# Altium integrated library Linear Technology PMIC-Switching Reg LTC1174-LTC3901.IntLib: 2647 symbols (part 99 of 310)
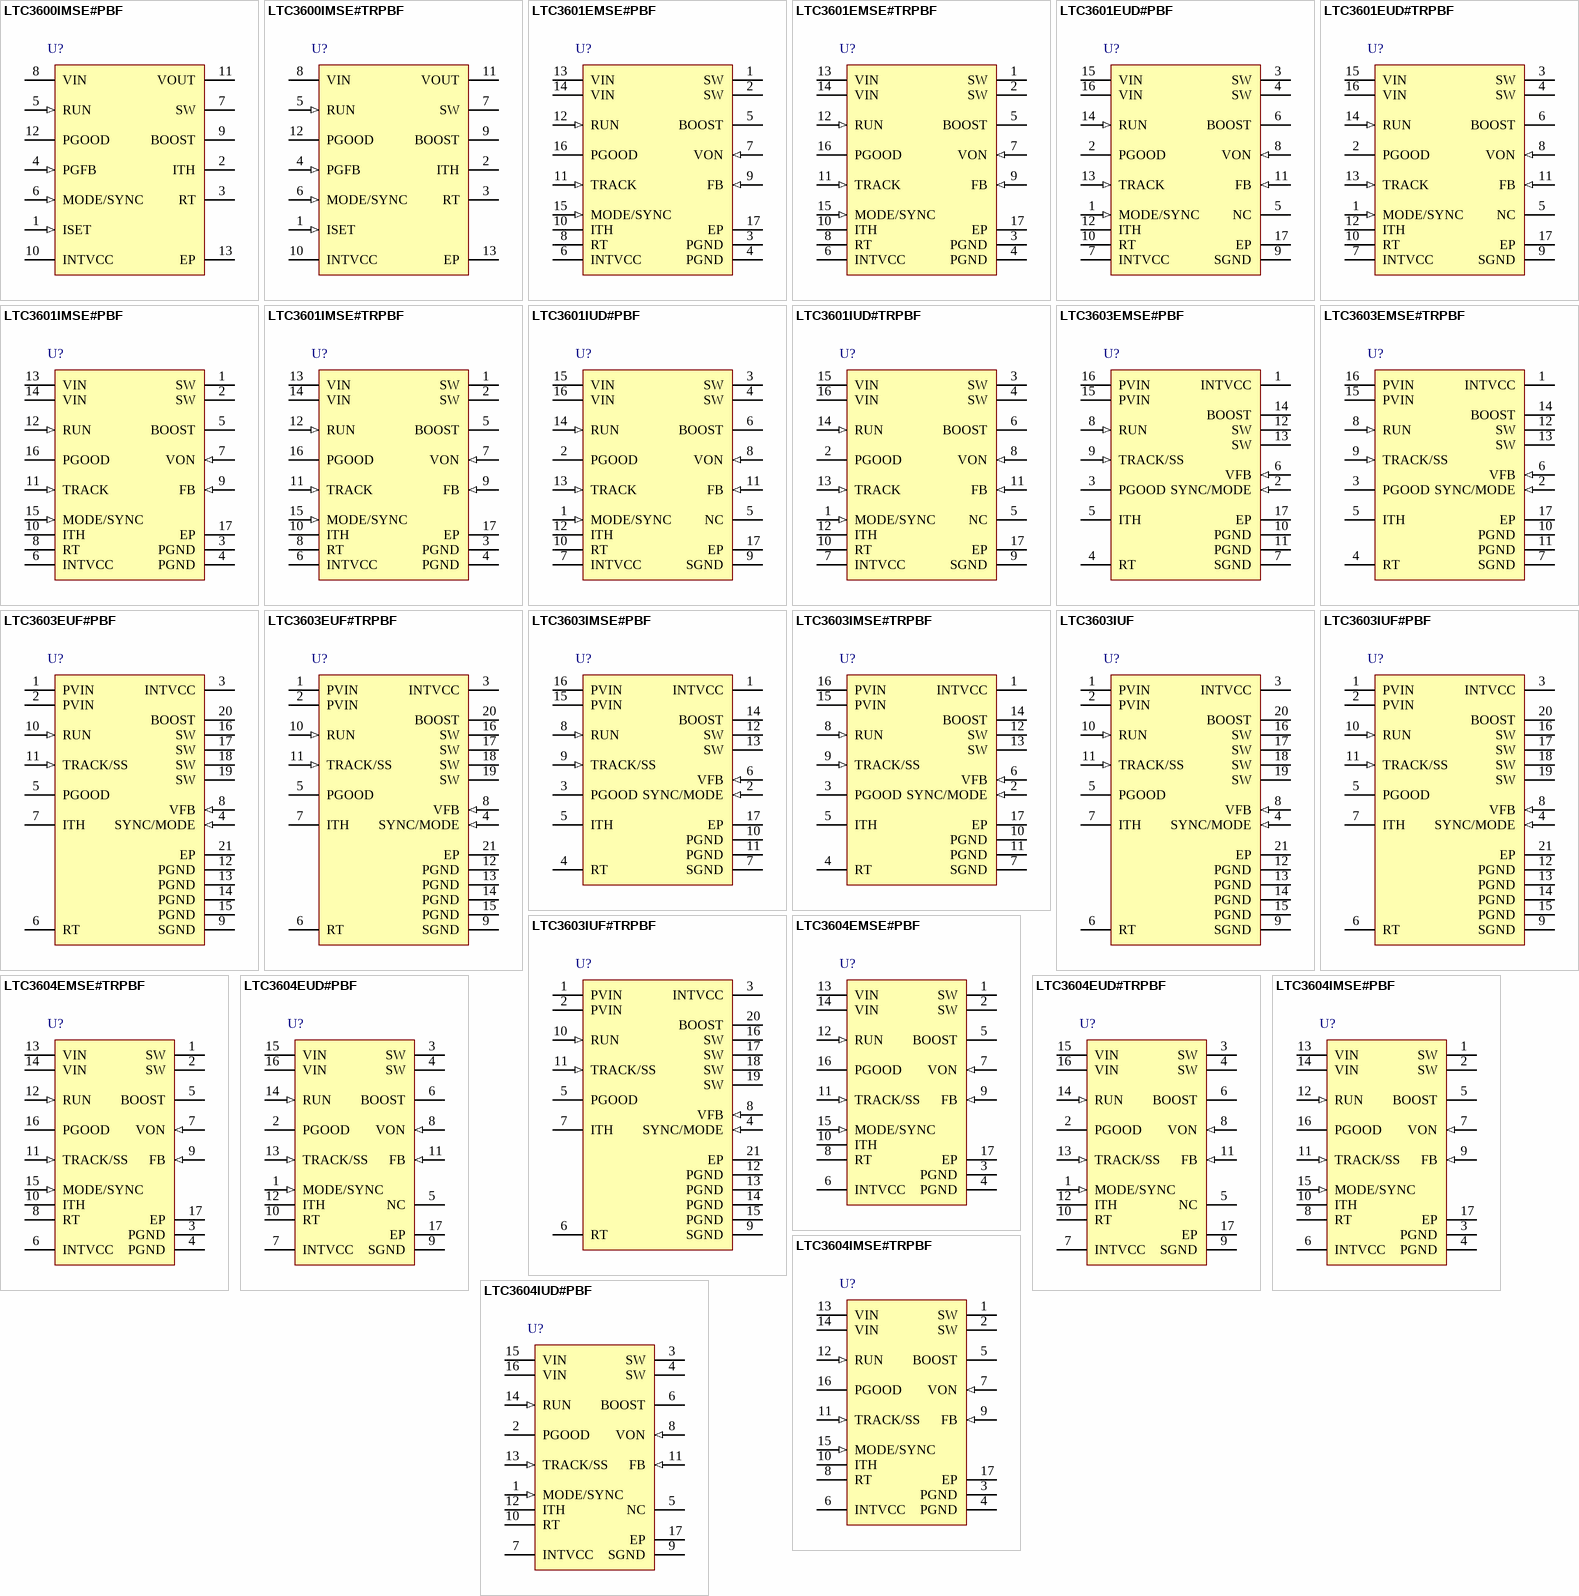
[diagram p172: symbols LTC3600IMSE#PBF to LTC3604IUD#PBF]

## LTC3601EUD#PBF
designator U?
1.5 A, Monolithic Synchronous Step-Down Regulator, 16-pin QFN (UD-16), -40 to 125 degC, Pb-Free; Manufacturer: Linear Technology; PartNumber: LTC3601EUD#PBF; Number of Outputs: 1; PackageReference: UD-16; PackageDescription: 16-Pin Plastic QFN, Body 3 x 3 mm, Pitch 0.5 mm; Supplier 1: Digi-Key; Supplier Part Number 1: LTC3601EUD#PBF-ND; RoHS: TRUE; Code_JEDEC: MO-220
footprint LT-UD-16_N (QFN, 16-Leads, Body 3x3mm, Pitch 0.5mm, Thermal Pad 1.45x1.45mm, IPC Medium Density)
footprint LT-UD-16_L (QFN, 16-Leads, Body 3x3mm, Pitch 0.5mm, Thermal Pad 1.45x1.45mm, IPC High Density)
footprint LT-UD-16_M (QFN, 16-Leads, Body 3x3mm, Pitch 0.5mm, Thermal Pad 1.45x1.45mm, IPC Low Density)
pins: 1 MODE/SYNC (in) "Mode Selection and External Synchronization Input Pin. This pin places the LTC3601 into forced continuous operation when tied to ground. High efficiency Burst Mode operation is enabled by either floating this pin or by tying (See Datasheet)", 2 PGOOD (hiz) "Open-Drain Power Good Output Pin. PGOOD is pulled to ground when the voltage at the FB pin is not within 8% (typical) of the internal 0.6V reference. PGOOD becomes high impedance once the voltage at the FB pin returns to (See Datasheet)", 3 SW (power) "Switch Node Output Pin. Connect this pin to the SW side of the external inductor. The normal operation voltage swing of this pin ranges from ground to PVIN.", 4 SW (power) "Switch Node Output Pin. Connect this pin to the SW side of the external inductor. The normal operation voltage swing of this pin ranges from ground to PVIN.", 5 NC, 6 BOOST "Boosted Floating Driver Supply Pin. The (+) terminal of the external bootstrap capacitor connects to this pin while the (-) terminal connects to the SW pin. The normal operation voltage swing of this pin ranges from a diode (See Datasheet)", 7 INTVCC (power) "Internal 3.3V Regulator Output Pin. This pin should be decoupled to PGND with a low ESR ceramic capacitor of 1uF or more.", 8 VON (in) "On-Time Voltage Input Pin. This pin sets the voltage trip point for the on-time comparator. Connect this pin to the regulated output to make the ontime proportional to the output voltage when VOUT =< 6V. If VOUT > 6V, (See Datasheet)", 9 SGND (power) "Signal Ground Pin. This pin should have a low noise connection to reference ground. The feedback resistor network, external compensation network and RT resistor should be connected to this ground. In the MSE package, the (See Datasheet)", 10 RT "Oscillator Frequency Program Pin. Connect an external resistor, between 80k to 400k, from this pin to SGND to program the LTC3601 switching frequency from 800kHz to 4MHz. When RT is tied to INTVCC, the switching frequency (See Datasheet)", 11 FB (in) "Output Voltage Feedback Pin. Input to the error amplifier that compares the feedback voltage to the internal 0.6V reference voltage. Connect this pin to the appropriate resistor divider network to program the desired output (See Datasheet)", 12 ITH "Error Amplifier Output and Switching Regulator Compensation Pin. Connect this pin to appropriate external components to compensate the regulator loop frequency response. Connect this pin to INTVCC to use the default internal (See Datasheet)", 13 TRACK (in) "Output Voltage Tracking and Soft-Start Input Pin. Forcing a voltage below 0.6V on this pin overrides the internal reference input to the error amplifier. The LTC3601 will servo the FB pin to the TRACK voltage under this (See Datasheet)", 14 RUN (in) "Regulator Enable Pin. Enables chip operation by applying a voltage above 1.25V. A voltage below 1V on this pin places the part into shutdown. Do not float this pin.", 15 VIN (power) "Main Power Supply Input Pins. These pins should be closely decoupled to PGND with a low ESR capacitor of 10uF or more.", 16 VIN (power) "Main Power Supply Input Pins. These pins should be closely decoupled to PGND with a low ESR capacitor of 10uF or more.", 17 EP (power) "Power Ground Pin. The (-) terminal of the input bypass capacitor, CIN, and the (-) terminal of the output capacitor, COUT , should be tied to this pin with a low impedance connection. In the QFN package the exposed pad must (See Datasheet)"

## LTC3601EUD#TRPBF
designator U?
1.5 A, Monolithic Synchronous Step-Down Regulator, 16-pin QFN (UD-16), -40 to 125 degC, Pb-Free, Tape and Reel; Manufacturer: Linear Technology; PartNumber: LTC3601EUD#TRPBF; Number of Outputs: 1; PackageReference: UD-16; PackageDescription: 16-Pin Plastic QFN, Body 3 x 3 mm, Pitch 0.5 mm; Supplier 1: Digi-Key; Supplier Part Number 1: LTC3601EUD#TRPBF-ND; RoHS: TRUE; Code_JEDEC: MO-220
footprint LT-UD-16_N (QFN, 16-Leads, Body 3x3mm, Pitch 0.5mm, Thermal Pad 1.45x1.45mm, IPC Medium Density)
footprint LT-UD-16_L (QFN, 16-Leads, Body 3x3mm, Pitch 0.5mm, Thermal Pad 1.45x1.45mm, IPC High Density)
footprint LT-UD-16_M (QFN, 16-Leads, Body 3x3mm, Pitch 0.5mm, Thermal Pad 1.45x1.45mm, IPC Low Density)
pins: 1 MODE/SYNC (in) "Mode Selection and External Synchronization Input Pin. This pin places the LTC3601 into forced continuous operation when tied to ground. High efficiency Burst Mode operation is enabled by either floating this pin or by tying (See Datasheet)", 2 PGOOD (hiz) "Open-Drain Power Good Output Pin. PGOOD is pulled to ground when the voltage at the FB pin is not within 8% (typical) of the internal 0.6V reference. PGOOD becomes high impedance once the voltage at the FB pin returns to (See Datasheet)", 3 SW (power) "Switch Node Output Pin. Connect this pin to the SW side of the external inductor. The normal operation voltage swing of this pin ranges from ground to PVIN.", 4 SW (power) "Switch Node Output Pin. Connect this pin to the SW side of the external inductor. The normal operation voltage swing of this pin ranges from ground to PVIN.", 5 NC, 6 BOOST "Boosted Floating Driver Supply Pin. The (+) terminal of the external bootstrap capacitor connects to this pin while the (-) terminal connects to the SW pin. The normal operation voltage swing of this pin ranges from a diode (See Datasheet)", 7 INTVCC (power) "Internal 3.3V Regulator Output Pin. This pin should be decoupled to PGND with a low ESR ceramic capacitor of 1uF or more.", 8 VON (in) "On-Time Voltage Input Pin. This pin sets the voltage trip point for the on-time comparator. Connect this pin to the regulated output to make the ontime proportional to the output voltage when VOUT =< 6V. If VOUT > 6V, (See Datasheet)", 9 SGND (power) "Signal Ground Pin. This pin should have a low noise connection to reference ground. The feedback resistor network, external compensation network and RT resistor should be connected to this ground. In the MSE package, the (See Datasheet)", 10 RT "Oscillator Frequency Program Pin. Connect an external resistor, between 80k to 400k, from this pin to SGND to program the LTC3601 switching frequency from 800kHz to 4MHz. When RT is tied to INTVCC, the switching frequency (See Datasheet)", 11 FB (in) "Output Voltage Feedback Pin. Input to the error amplifier that compares the feedback voltage to the internal 0.6V reference voltage. Connect this pin to the appropriate resistor divider network to program the desired output (See Datasheet)", 12 ITH "Error Amplifier Output and Switching Regulator Compensation Pin. Connect this pin to appropriate external components to compensate the regulator loop frequency response. Connect this pin to INTVCC to use the default internal (See Datasheet)", 13 TRACK (in) "Output Voltage Tracking and Soft-Start Input Pin. Forcing a voltage below 0.6V on this pin overrides the internal reference input to the error amplifier. The LTC3601 will servo the FB pin to the TRACK voltage under this (See Datasheet)", 14 RUN (in) "Regulator Enable Pin. Enables chip operation by applying a voltage above 1.25V. A voltage below 1V on this pin places the part into shutdown. Do not float this pin.", 15 VIN (power) "Main Power Supply Input Pins. These pins should be closely decoupled to PGND with a low ESR capacitor of 10uF or more.", 16 VIN (power) "Main Power Supply Input Pins. These pins should be closely decoupled to PGND with a low ESR capacitor of 10uF or more.", 17 EP (power) "Power Ground Pin. The (-) terminal of the input bypass capacitor, CIN, and the (-) terminal of the output capacitor, COUT , should be tied to this pin with a low impedance connection. In the QFN package the exposed pad must (See Datasheet)"

## LTC3601IMSE#PBF
designator U?
1.5 A, Monolithic Synchronous Step-Down Regulator, 16-pin SOP (MSE-16-EDP), -40 to 125 degC, Pb-Free; Manufacturer: Linear Technology; PartNumber: LTC3601IMSE#PBF; Number of Outputs: 1; PackageReference: MSE-16; PackageDescription: 16-Pin Plastic MSOP, Exposed Die Pad, Body 4.039 x 3 mm, Pitch 0.5 mm; Supplier 1: Digi-Key; Supplier Part Number 1: LTC3601IMSE#PBF-ND; RoHS: TRUE
footprint LT-MSE-16-EDP_N (SOP, 16-Leads, Body 4.1x3.1mm, Pitch 0.5mm, Thermal Pad 2.95x1.76mm, IPC Medium Density)
footprint LT-MSE-16-EDP_L (SOP, 16-Leads, Body 4.1x3.1mm, Pitch 0.5mm, Thermal Pad 2.95x1.76mm, IPC High Density)
footprint LT-MSE-16-EDP_M (SOP, 16-Leads, Body 4.1x3.1mm, Pitch 0.5mm, Thermal Pad 2.95x1.76mm, IPC Low Density)
pins: 1 SW (power) "Switch Node Output Pin. Connect this pin to the SW side of the external inductor. The normal operation voltage swing of this pin ranges from ground to PVIN.", 2 SW (power) "Switch Node Output Pin. Connect this pin to the SW side of the external inductor. The normal operation voltage swing of this pin ranges from ground to PVIN.", 3 PGND (power) "Power Ground Pin. The (-) terminal of the input bypass capacitor, CIN, and the (-) terminal of the output capacitor, COUT , should be tied to this pin with a low impedance connection. In the QFN package the exposed pad must (See Datasheet)", 4 PGND (power) "Power Ground Pin. The (-) terminal of the input bypass capacitor, CIN, and the (-) terminal of the output capacitor, COUT , should be tied to this pin with a low impedance connection. In the QFN package the exposed pad must (See Datasheet)", 5 BOOST "Boosted Floating Driver Supply Pin. The (+) terminal of the external bootstrap capacitor connects to this pin while the (-) terminal connects to the SW pin. The normal operation voltage swing of this pin ranges from a diode (See Datasheet)", 6 INTVCC (power) "Internal 3.3V Regulator Output Pin. This pin should be decoupled to PGND with a low ESR ceramic capacitor of 1uF or more.", 7 VON (in) "On-Time Voltage Input Pin. This pin sets the voltage trip point for the on-time comparator. Connect this pin to the regulated output to make the ontime proportional to the output voltage when VOUT =< 6V. If VOUT > 6V, (See Datasheet)", 8 RT "Oscillator Frequency Program Pin. Connect an external resistor, between 80k to 400k, from this pin to SGND to program the LTC3601 switching frequency from 800kHz to 4MHz. When RT is tied to INTVCC, the switching frequency (See Datasheet)", 9 FB (in) "Output Voltage Feedback Pin. Input to the error amplifier that compares the feedback voltage to the internal 0.6V reference voltage. Connect this pin to the appropriate resistor divider network to program the desired output (See Datasheet)", 10 ITH "Error Amplifier Output and Switching Regulator Compensation Pin. Connect this pin to appropriate external components to compensate the regulator loop frequency response. Connect this pin to INTVCC to use the default internal (See Datasheet)", 11 TRACK (in) "Output Voltage Tracking and Soft-Start Input Pin. Forcing a voltage below 0.6V on this pin overrides the internal reference input to the error amplifier. The LTC3601 will servo the FB pin to the TRACK voltage under this (See Datasheet)", 12 RUN (in) "Regulator Enable Pin. Enables chip operation by applying a voltage above 1.25V. A voltage below 1V on this pin places the part into shutdown. Do not float this pin.", 13 VIN (power) "Main Power Supply Input Pins. These pins should be closely decoupled to PGND with a low ESR capacitor of 10uF or more.", 14 VIN (power) "Main Power Supply Input Pins. These pins should be closely decoupled to PGND with a low ESR capacitor of 10uF or more.", 15 MODE/SYNC (in) "Mode Selection and External Synchronization Input Pin. This pin places the LTC3601 into forced continuous operation when tied to ground. High efficiency Burst Mode operation is enabled by either floating this pin or by tying (See Datasheet)", 16 PGOOD (hiz) "Open-Drain Power Good Output Pin. PGOOD is pulled to ground when the voltage at the FB pin is not within 8% (typical) of the internal 0.6V reference. PGOOD becomes high impedance once the voltage at the FB pin returns to (See Datasheet)", 17 EP (power) "Signal Ground Pin. This pin should have a low noise connection to reference ground. The feedback resistor network, external compensation network and RT resistor should be connected to this ground. In the MSE package, the (See Datasheet)"

## LTC3601IMSE#TRPBF
designator U?
1.5 A, Monolithic Synchronous Step-Down Regulator, 16-pin SOP (MSE-16-EDP), -40 to 125 degC, Pb-Free, Tape and Reel; Manufacturer: Linear Technology; PartNumber: LTC3601IMSE#TRPBF; Number of Outputs: 1; PackageReference: MSE-16; PackageDescription: 16-Pin Plastic MSOP, Exposed Die Pad, Body 4.039 x 3 mm, Pitch 0.5 mm; Supplier 1: Digi-Key; Supplier Part Number 1: LTC3601IMSE#TRPBF-ND; RoHS: TRUE
footprint LT-MSE-16-EDP_N (SOP, 16-Leads, Body 4.1x3.1mm, Pitch 0.5mm, Thermal Pad 2.95x1.76mm, IPC Medium Density)
footprint LT-MSE-16-EDP_L (SOP, 16-Leads, Body 4.1x3.1mm, Pitch 0.5mm, Thermal Pad 2.95x1.76mm, IPC High Density)
footprint LT-MSE-16-EDP_M (SOP, 16-Leads, Body 4.1x3.1mm, Pitch 0.5mm, Thermal Pad 2.95x1.76mm, IPC Low Density)
pins: 1 SW (power) "Switch Node Output Pin. Connect this pin to the SW side of the external inductor. The normal operation voltage swing of this pin ranges from ground to PVIN.", 2 SW (power) "Switch Node Output Pin. Connect this pin to the SW side of the external inductor. The normal operation voltage swing of this pin ranges from ground to PVIN.", 3 PGND (power) "Power Ground Pin. The (-) terminal of the input bypass capacitor, CIN, and the (-) terminal of the output capacitor, COUT , should be tied to this pin with a low impedance connection. In the QFN package the exposed pad must (See Datasheet)", 4 PGND (power) "Power Ground Pin. The (-) terminal of the input bypass capacitor, CIN, and the (-) terminal of the output capacitor, COUT , should be tied to this pin with a low impedance connection. In the QFN package the exposed pad must (See Datasheet)", 5 BOOST "Boosted Floating Driver Supply Pin. The (+) terminal of the external bootstrap capacitor connects to this pin while the (-) terminal connects to the SW pin. The normal operation voltage swing of this pin ranges from a diode (See Datasheet)", 6 INTVCC (power) "Internal 3.3V Regulator Output Pin. This pin should be decoupled to PGND with a low ESR ceramic capacitor of 1uF or more.", 7 VON (in) "On-Time Voltage Input Pin. This pin sets the voltage trip point for the on-time comparator. Connect this pin to the regulated output to make the ontime proportional to the output voltage when VOUT =< 6V. If VOUT > 6V, (See Datasheet)", 8 RT "Oscillator Frequency Program Pin. Connect an external resistor, between 80k to 400k, from this pin to SGND to program the LTC3601 switching frequency from 800kHz to 4MHz. When RT is tied to INTVCC, the switching frequency (See Datasheet)", 9 FB (in) "Output Voltage Feedback Pin. Input to the error amplifier that compares the feedback voltage to the internal 0.6V reference voltage. Connect this pin to the appropriate resistor divider network to program the desired output (See Datasheet)", 10 ITH "Error Amplifier Output and Switching Regulator Compensation Pin. Connect this pin to appropriate external components to compensate the regulator loop frequency response. Connect this pin to INTVCC to use the default internal (See Datasheet)", 11 TRACK (in) "Output Voltage Tracking and Soft-Start Input Pin. Forcing a voltage below 0.6V on this pin overrides the internal reference input to the error amplifier. The LTC3601 will servo the FB pin to the TRACK voltage under this (See Datasheet)", 12 RUN (in) "Regulator Enable Pin. Enables chip operation by applying a voltage above 1.25V. A voltage below 1V on this pin places the part into shutdown. Do not float this pin.", 13 VIN (power) "Main Power Supply Input Pins. These pins should be closely decoupled to PGND with a low ESR capacitor of 10uF or more.", 14 VIN (power) "Main Power Supply Input Pins. These pins should be closely decoupled to PGND with a low ESR capacitor of 10uF or more.", 15 MODE/SYNC (in) "Mode Selection and External Synchronization Input Pin. This pin places the LTC3601 into forced continuous operation when tied to ground. High efficiency Burst Mode operation is enabled by either floating this pin or by tying (See Datasheet)", 16 PGOOD (hiz) "Open-Drain Power Good Output Pin. PGOOD is pulled to ground when the voltage at the FB pin is not within 8% (typical) of the internal 0.6V reference. PGOOD becomes high impedance once the voltage at the FB pin returns to (See Datasheet)", 17 EP (power) "Signal Ground Pin. This pin should have a low noise connection to reference ground. The feedback resistor network, external compensation network and RT resistor should be connected to this ground. In the MSE package, the (See Datasheet)"

## LTC3601IUD#PBF
designator U?
1.5 A, Monolithic Synchronous Step-Down Regulator, 16-pin QFN (UD-16), -40 to 125 degC, Pb-Free; Manufacturer: Linear Technology; PartNumber: LTC3601IUD#PBF; Number of Outputs: 1; PackageReference: UD-16; PackageDescription: 16-Pin Plastic QFN, Body 3 x 3 mm, Pitch 0.5 mm; Supplier 1: Digi-Key; Supplier Part Number 1: LTC3601IUD#PBF-ND; RoHS: TRUE; Code_JEDEC: MO-220
footprint LT-UD-16_N (QFN, 16-Leads, Body 3x3mm, Pitch 0.5mm, Thermal Pad 1.45x1.45mm, IPC Medium Density)
footprint LT-UD-16_L (QFN, 16-Leads, Body 3x3mm, Pitch 0.5mm, Thermal Pad 1.45x1.45mm, IPC High Density)
footprint LT-UD-16_M (QFN, 16-Leads, Body 3x3mm, Pitch 0.5mm, Thermal Pad 1.45x1.45mm, IPC Low Density)
pins: 1 MODE/SYNC (in) "Mode Selection and External Synchronization Input Pin. This pin places the LTC3601 into forced continuous operation when tied to ground. High efficiency Burst Mode operation is enabled by either floating this pin or by tying (See Datasheet)", 2 PGOOD (hiz) "Open-Drain Power Good Output Pin. PGOOD is pulled to ground when the voltage at the FB pin is not within 8% (typical) of the internal 0.6V reference. PGOOD becomes high impedance once the voltage at the FB pin returns to (See Datasheet)", 3 SW (power) "Switch Node Output Pin. Connect this pin to the SW side of the external inductor. The normal operation voltage swing of this pin ranges from ground to PVIN.", 4 SW (power) "Switch Node Output Pin. Connect this pin to the SW side of the external inductor. The normal operation voltage swing of this pin ranges from ground to PVIN.", 5 NC, 6 BOOST "Boosted Floating Driver Supply Pin. The (+) terminal of the external bootstrap capacitor connects to this pin while the (-) terminal connects to the SW pin. The normal operation voltage swing of this pin ranges from a diode (See Datasheet)", 7 INTVCC (power) "Internal 3.3V Regulator Output Pin. This pin should be decoupled to PGND with a low ESR ceramic capacitor of 1uF or more.", 8 VON (in) "On-Time Voltage Input Pin. This pin sets the voltage trip point for the on-time comparator. Connect this pin to the regulated output to make the ontime proportional to the output voltage when VOUT =< 6V. If VOUT > 6V, (See Datasheet)", 9 SGND (power) "Signal Ground Pin. This pin should have a low noise connection to reference ground. The feedback resistor network, external compensation network and RT resistor should be connected to this ground. In the MSE package, the (See Datasheet)", 10 RT "Oscillator Frequency Program Pin. Connect an external resistor, between 80k to 400k, from this pin to SGND to program the LTC3601 switching frequency from 800kHz to 4MHz. When RT is tied to INTVCC, the switching frequency (See Datasheet)", 11 FB (in) "Output Voltage Feedback Pin. Input to the error amplifier that compares the feedback voltage to the internal 0.6V reference voltage. Connect this pin to the appropriate resistor divider network to program the desired output (See Datasheet)", 12 ITH "Error Amplifier Output and Switching Regulator Compensation Pin. Connect this pin to appropriate external components to compensate the regulator loop frequency response. Connect this pin to INTVCC to use the default internal (See Datasheet)", 13 TRACK (in) "Output Voltage Tracking and Soft-Start Input Pin. Forcing a voltage below 0.6V on this pin overrides the internal reference input to the error amplifier. The LTC3601 will servo the FB pin to the TRACK voltage under this (See Datasheet)", 14 RUN (in) "Regulator Enable Pin. Enables chip operation by applying a voltage above 1.25V. A voltage below 1V on this pin places the part into shutdown. Do not float this pin.", 15 VIN (power) "Main Power Supply Input Pins. These pins should be closely decoupled to PGND with a low ESR capacitor of 10uF or more.", 16 VIN (power) "Main Power Supply Input Pins. These pins should be closely decoupled to PGND with a low ESR capacitor of 10uF or more.", 17 EP (power) "Power Ground Pin. The (-) terminal of the input bypass capacitor, CIN, and the (-) terminal of the output capacitor, COUT , should be tied to this pin with a low impedance connection. In the QFN package the exposed pad must (See Datasheet)"

## LTC3601IUD#TRPBF
designator U?
1.5 A, Monolithic Synchronous Step-Down Regulator, 16-pin QFN (UD-16), -40 to 125 degC, Pb-Free, Tape and Reel; Manufacturer: Linear Technology; PartNumber: LTC3601IUD#TRPBF; Number of Outputs: 1; PackageReference: UD-16; PackageDescription: 16-Pin Plastic QFN, Body 3 x 3 mm, Pitch 0.5 mm; Supplier 1: Digi-Key; Supplier Part Number 1: LTC3601IUD#TRPBF-ND; RoHS: TRUE; Code_JEDEC: MO-220
footprint LT-UD-16_N (QFN, 16-Leads, Body 3x3mm, Pitch 0.5mm, Thermal Pad 1.45x1.45mm, IPC Medium Density)
footprint LT-UD-16_L (QFN, 16-Leads, Body 3x3mm, Pitch 0.5mm, Thermal Pad 1.45x1.45mm, IPC High Density)
footprint LT-UD-16_M (QFN, 16-Leads, Body 3x3mm, Pitch 0.5mm, Thermal Pad 1.45x1.45mm, IPC Low Density)
pins: 1 MODE/SYNC (in) "Mode Selection and External Synchronization Input Pin. This pin places the LTC3601 into forced continuous operation when tied to ground. High efficiency Burst Mode operation is enabled by either floating this pin or by tying (See Datasheet)", 2 PGOOD (hiz) "Open-Drain Power Good Output Pin. PGOOD is pulled to ground when the voltage at the FB pin is not within 8% (typical) of the internal 0.6V reference. PGOOD becomes high impedance once the voltage at the FB pin returns to (See Datasheet)", 3 SW (power) "Switch Node Output Pin. Connect this pin to the SW side of the external inductor. The normal operation voltage swing of this pin ranges from ground to PVIN.", 4 SW (power) "Switch Node Output Pin. Connect this pin to the SW side of the external inductor. The normal operation voltage swing of this pin ranges from ground to PVIN.", 5 NC, 6 BOOST "Boosted Floating Driver Supply Pin. The (+) terminal of the external bootstrap capacitor connects to this pin while the (-) terminal connects to the SW pin. The normal operation voltage swing of this pin ranges from a diode (See Datasheet)", 7 INTVCC (power) "Internal 3.3V Regulator Output Pin. This pin should be decoupled to PGND with a low ESR ceramic capacitor of 1uF or more.", 8 VON (in) "On-Time Voltage Input Pin. This pin sets the voltage trip point for the on-time comparator. Connect this pin to the regulated output to make the ontime proportional to the output voltage when VOUT =< 6V. If VOUT > 6V, (See Datasheet)", 9 SGND (power) "Signal Ground Pin. This pin should have a low noise connection to reference ground. The feedback resistor network, external compensation network and RT resistor should be connected to this ground. In the MSE package, the (See Datasheet)", 10 RT "Oscillator Frequency Program Pin. Connect an external resistor, between 80k to 400k, from this pin to SGND to program the LTC3601 switching frequency from 800kHz to 4MHz. When RT is tied to INTVCC, the switching frequency (See Datasheet)", 11 FB (in) "Output Voltage Feedback Pin. Input to the error amplifier that compares the feedback voltage to the internal 0.6V reference voltage. Connect this pin to the appropriate resistor divider network to program the desired output (See Datasheet)", 12 ITH "Error Amplifier Output and Switching Regulator Compensation Pin. Connect this pin to appropriate external components to compensate the regulator loop frequency response. Connect this pin to INTVCC to use the default internal (See Datasheet)", 13 TRACK (in) "Output Voltage Tracking and Soft-Start Input Pin. Forcing a voltage below 0.6V on this pin overrides the internal reference input to the error amplifier. The LTC3601 will servo the FB pin to the TRACK voltage under this (See Datasheet)", 14 RUN (in) "Regulator Enable Pin. Enables chip operation by applying a voltage above 1.25V. A voltage below 1V on this pin places the part into shutdown. Do not float this pin.", 15 VIN (power) "Main Power Supply Input Pins. These pins should be closely decoupled to PGND with a low ESR capacitor of 10uF or more.", 16 VIN (power) "Main Power Supply Input Pins. These pins should be closely decoupled to PGND with a low ESR capacitor of 10uF or more.", 17 EP (power) "Power Ground Pin. The (-) terminal of the input bypass capacitor, CIN, and the (-) terminal of the output capacitor, COUT , should be tied to this pin with a low impedance connection. In the QFN package the exposed pad must (See Datasheet)"

## LTC3603EMSE#PBF
designator U?
2.5 A, Monolithic Synchronous Step-Down Regulator, 16-pin SOP (MSE-16-EDP), -40 to 125 degC, Pb-Free; Manufacturer: Linear Technology; PartNumber: LTC3603EMSE#PBF; Number of Outputs: 1; PackageReference: MSE-16; PackageDescription: 16-Pin Plastic MSOP, Exposed Die Pad, Body 4.039 x 3 mm, Pitch 0.5 mm; Supplier 1: Digi-Key; Supplier Part Number 1: LTC3603EMSE#PBF-ND; RoHS: TRUE
footprint LT-MSE-16-EDP_N (SOP, 16-Leads, Body 4.1x3.1mm, Pitch 0.5mm, Thermal Pad 2.95x1.76mm, IPC Medium Density)
footprint LT-MSE-16-EDP_L (SOP, 16-Leads, Body 4.1x3.1mm, Pitch 0.5mm, Thermal Pad 2.95x1.76mm, IPC High Density)
footprint LT-MSE-16-EDP_M (SOP, 16-Leads, Body 4.1x3.1mm, Pitch 0.5mm, Thermal Pad 2.95x1.76mm, IPC Low Density)
pins: 1 INTVCC (power) "Output of Internal 5V LDO.", 2 SYNC/MODE (in) "Mode Select and External Clock Synchronization Input. Do not leave this pin floating.", 3 PGOOD (oc) "Power Good Output. Open-drain logic output that is pulled to ground when the output voltage is not within +/-10% of regulation point.", 4 RT "Frequency Set Pin.", 5 ITH "Error Amplifier Compensation Point.", 6 VFB (in) "Feedback Pin.", 7 SGND (power) "Signal Ground. Exposed pad is signal ground and must be soldered to the PCB for rated thermal performance.", 8 RUN (in) "Run Control Input. This pin may be tied to PVIN to enable the chip. Do not leave this pin floating.", 9 TRACK/SS (in) "Tracking Input for the Controller or Optional External Soft-Start Input. This pin allows the start-up of VOUT to “track?the external voltage at this pin using an external resistor divider. An external soft-start can(See Datasheet)", 10 PGND (power) "Power Ground.", 11 PGND (power) "Power Ground.", 12 SW (power) "Switch Node Connection to the Inductor.", 13 SW (power) "Switch Node Connection to the Inductor.", 14 BOOST "Bootstrapped Supply to the Top Side Floating Gate Driver.", 15 PVIN (power) "Power Input Supply. Decouple this pin with a capacitor to PGND", 16 PVIN (power) "Power Input Supply. Decouple this pin with a capacitor to PGND", 17 EP (power) "Signal Ground. Exposed pad is signal ground and must be soldered to the PCB for rated thermal performance."

## LTC3603EMSE#TRPBF
designator U?
2.5 A, Monolithic Synchronous Step-Down Regulator, 16-pin SOP (MSE-16-EDP), -40 to 125 degC, Pb-Free, Tape and Reel; Manufacturer: Linear Technology; PartNumber: LTC3603EMSE#TRPBF; Number of Outputs: 1; PackageReference: MSE-16; PackageDescription: 16-Pin Plastic MSOP, Exposed Die Pad, Body 4.039 x 3 mm, Pitch 0.5 mm; Supplier 1: Digi-Key; Supplier Part Number 1: LTC3603EMSE#TRPBF-ND; RoHS: TRUE
footprint LT-MSE-16-EDP_N (SOP, 16-Leads, Body 4.1x3.1mm, Pitch 0.5mm, Thermal Pad 2.95x1.76mm, IPC Medium Density)
footprint LT-MSE-16-EDP_L (SOP, 16-Leads, Body 4.1x3.1mm, Pitch 0.5mm, Thermal Pad 2.95x1.76mm, IPC High Density)
footprint LT-MSE-16-EDP_M (SOP, 16-Leads, Body 4.1x3.1mm, Pitch 0.5mm, Thermal Pad 2.95x1.76mm, IPC Low Density)
pins: 1 INTVCC (power) "Output of Internal 5V LDO.", 2 SYNC/MODE (in) "Mode Select and External Clock Synchronization Input. Do not leave this pin floating.", 3 PGOOD (oc) "Power Good Output. Open-drain logic output that is pulled to ground when the output voltage is not within +/-10% of regulation point.", 4 RT "Frequency Set Pin.", 5 ITH "Error Amplifier Compensation Point.", 6 VFB (in) "Feedback Pin.", 7 SGND (power) "Signal Ground. Exposed pad is signal ground and must be soldered to the PCB for rated thermal performance.", 8 RUN (in) "Run Control Input. This pin may be tied to PVIN to enable the chip. Do not leave this pin floating.", 9 TRACK/SS (in) "Tracking Input for the Controller or Optional External Soft-Start Input. This pin allows the start-up of VOUT to “track?the external voltage at this pin using an external resistor divider. An external soft-start can(See Datasheet)", 10 PGND (power) "Power Ground.", 11 PGND (power) "Power Ground.", 12 SW (power) "Switch Node Connection to the Inductor.", 13 SW (power) "Switch Node Connection to the Inductor.", 14 BOOST "Bootstrapped Supply to the Top Side Floating Gate Driver.", 15 PVIN (power) "Power Input Supply. Decouple this pin with a capacitor to PGND", 16 PVIN (power) "Power Input Supply. Decouple this pin with a capacitor to PGND", 17 EP (power) "Signal Ground. Exposed pad is signal ground and must be soldered to the PCB for rated thermal performance."

## LTC3603EUF#PBF
designator U?
2.5 A, Monolithic Synchronous Step-Down Regulator, 20-pin QFN (UF-20), -40 to 125 degC, Pb-Free; Manufacturer: Linear Technology; PartNumber: LTC3603EUF#PBF; Number of Outputs: 1; PackageReference: UF20; PackageDescription: 20-Pin Plastic QFN, Body 4 x 4 mm, Pitch 0.5 mm; Supplier 1: Digi-Key; Supplier Part Number 1: LTC3603EUF#PBF-ND; RoHS: TRUE; Code_JEDEC: MO-220
footprint LT-UF-20_N (QFN, 20-Leads, Body 4.1x4.1mm, Pitch 0.5mm, Thermal Pad 2.45x2.45mm, IPC Medium Density)
footprint LT-UF-20_L (QFN, 20-Leads, Body 4.1x4.1mm, Pitch 0.5mm, Thermal Pad 2.45x2.45mm, IPC High Density)
footprint LT-UF-20_M (QFN, 20-Leads, Body 4.1x4.1mm, Pitch 0.5mm, Thermal Pad 2.45x2.45mm, IPC Low Density)
pins: 1 PVIN (power) "Power Input Supply. Decouple this pin with a capacitor to PGND", 2 PVIN (power) "Power Input Supply. Decouple this pin with a capacitor to PGND", 3 INTVCC (power) "Output of Internal 5V LDO.", 4 SYNC/MODE (in) "Mode Select and External Clock Synchronization Input. Do not leave this pin floating.", 5 PGOOD (oc) "Power Good Output. Open-drain logic output that is pulled to ground when the output voltage is not within +/-10% of regulation point.", 6 RT "Frequency Set Pin.", 7 ITH "Error Amplifier Compensation Point.", 8 VFB (in) "Feedback Pin.", 9 SGND (power) "Signal Ground. Exposed pad is signal ground and must be soldered to the PCB for rated thermal performance.", 10 RUN (in) "Run Control Input. This pin may be tied to PVIN to enable the chip. Do not leave this pin floating.", 11 TRACK/SS (in) "Tracking Input for the Controller or Optional External Soft-Start Input. This pin allows the start-up of VOUT to “track?the external voltage at this pin using an external resistor divider. An external soft-start can(See Datasheet)", 12 PGND (power) "Power Ground.", 13 PGND (power) "Power Ground.", 14 PGND (power) "Power Ground.", 15 PGND (power) "Power Ground.", 16 SW (power) "Switch Node Connection to the Inductor.", 17 SW (power) "Switch Node Connection to the Inductor.", 18 SW (power) "Switch Node Connection to the Inductor.", 19 SW (power) "Switch Node Connection to the Inductor.", 20 BOOST "Bootstrapped Supply to the Top Side Floating Gate Driver.", 21 EP (power) "Signal Ground. Exposed pad is signal ground and must be soldered to the PCB for rated thermal performance."

## LTC3603EUF#TRPBF
designator U?
2.5 A, Monolithic Synchronous Step-Down Regulator, 20-pin QFN (UF-20), -40 to 125 degC, Pb-Free, Tape and Reel; Manufacturer: Linear Technology; PartNumber: LTC3603EUF#TRPBF; Number of Outputs: 1; PackageReference: UF20; PackageDescription: 20-Pin Plastic QFN, Body 4 x 4 mm, Pitch 0.5 mm; Supplier 1: Digi-Key; Supplier Part Number 1: LTC3603EUF#TRPBF-ND; RoHS: TRUE; Code_JEDEC: MO-220
footprint LT-UF-20_N (QFN, 20-Leads, Body 4.1x4.1mm, Pitch 0.5mm, Thermal Pad 2.45x2.45mm, IPC Medium Density)
footprint LT-UF-20_L (QFN, 20-Leads, Body 4.1x4.1mm, Pitch 0.5mm, Thermal Pad 2.45x2.45mm, IPC High Density)
footprint LT-UF-20_M (QFN, 20-Leads, Body 4.1x4.1mm, Pitch 0.5mm, Thermal Pad 2.45x2.45mm, IPC Low Density)
pins: 1 PVIN (power) "Power Input Supply. Decouple this pin with a capacitor to PGND", 2 PVIN (power) "Power Input Supply. Decouple this pin with a capacitor to PGND", 3 INTVCC (power) "Output of Internal 5V LDO.", 4 SYNC/MODE (in) "Mode Select and External Clock Synchronization Input. Do not leave this pin floating.", 5 PGOOD (oc) "Power Good Output. Open-drain logic output that is pulled to ground when the output voltage is not within +/-10% of regulation point.", 6 RT "Frequency Set Pin.", 7 ITH "Error Amplifier Compensation Point.", 8 VFB (in) "Feedback Pin.", 9 SGND (power) "Signal Ground. Exposed pad is signal ground and must be soldered to the PCB for rated thermal performance.", 10 RUN (in) "Run Control Input. This pin may be tied to PVIN to enable the chip. Do not leave this pin floating.", 11 TRACK/SS (in) "Tracking Input for the Controller or Optional External Soft-Start Input. This pin allows the start-up of VOUT to “track?the external voltage at this pin using an external resistor divider. An external soft-start can(See Datasheet)", 12 PGND (power) "Power Ground.", 13 PGND (power) "Power Ground.", 14 PGND (power) "Power Ground.", 15 PGND (power) "Power Ground.", 16 SW (power) "Switch Node Connection to the Inductor.", 17 SW (power) "Switch Node Connection to the Inductor.", 18 SW (power) "Switch Node Connection to the Inductor.", 19 SW (power) "Switch Node Connection to the Inductor.", 20 BOOST "Bootstrapped Supply to the Top Side Floating Gate Driver.", 21 EP (power) "Signal Ground. Exposed pad is signal ground and must be soldered to the PCB for rated thermal performance."

## LTC3603IMSE#PBF
designator U?
2.5 A, Monolithic Synchronous Step-Down Regulator, 16-pin SOP (MSE-16-EDP), -40 to 125 degC, Pb-Free; Manufacturer: Linear Technology; PartNumber: LTC3603IMSE#PBF; Number of Outputs: 1; PackageReference: MSE-16; PackageDescription: 16-Pin Plastic MSOP, Exposed Die Pad, Body 4.039 x 3 mm, Pitch 0.5 mm; Supplier 1: Digi-Key; Supplier Part Number 1: LTC3603IMSE#PBF-ND; RoHS: TRUE
footprint LT-MSE-16-EDP_N (SOP, 16-Leads, Body 4.1x3.1mm, Pitch 0.5mm, Thermal Pad 2.95x1.76mm, IPC Medium Density)
footprint LT-MSE-16-EDP_L (SOP, 16-Leads, Body 4.1x3.1mm, Pitch 0.5mm, Thermal Pad 2.95x1.76mm, IPC High Density)
footprint LT-MSE-16-EDP_M (SOP, 16-Leads, Body 4.1x3.1mm, Pitch 0.5mm, Thermal Pad 2.95x1.76mm, IPC Low Density)
pins: 1 INTVCC (power) "Output of Internal 5V LDO.", 2 SYNC/MODE (in) "Mode Select and External Clock Synchronization Input. Do not leave this pin floating.", 3 PGOOD (oc) "Power Good Output. Open-drain logic output that is pulled to ground when the output voltage is not within +/-10% of regulation point.", 4 RT "Frequency Set Pin.", 5 ITH "Error Amplifier Compensation Point.", 6 VFB (in) "Feedback Pin.", 7 SGND (power) "Signal Ground. Exposed pad is signal ground and must be soldered to the PCB for rated thermal performance.", 8 RUN (in) "Run Control Input. This pin may be tied to PVIN to enable the chip. Do not leave this pin floating.", 9 TRACK/SS (in) "Tracking Input for the Controller or Optional External Soft-Start Input. This pin allows the start-up of VOUT to “track?the external voltage at this pin using an external resistor divider. An external soft-start can(See Datasheet)", 10 PGND (power) "Power Ground.", 11 PGND (power) "Power Ground.", 12 SW (power) "Switch Node Connection to the Inductor.", 13 SW (power) "Switch Node Connection to the Inductor.", 14 BOOST "Bootstrapped Supply to the Top Side Floating Gate Driver.", 15 PVIN (power) "Power Input Supply. Decouple this pin with a capacitor to PGND", 16 PVIN (power) "Power Input Supply. Decouple this pin with a capacitor to PGND", 17 EP (power) "Signal Ground. Exposed pad is signal ground and must be soldered to the PCB for rated thermal performance."

## LTC3603IMSE#TRPBF
designator U?
2.5 A, Monolithic Synchronous Step-Down Regulator, 16-pin SOP (MSE-16-EDP), -40 to 125 degC, Pb-Free, Tape and Reel; Manufacturer: Linear Technology; PartNumber: LTC3603IMSE#TRPBF; Number of Outputs: 1; PackageReference: MSE-16; PackageDescription: 16-Pin Plastic MSOP, Exposed Die Pad, Body 4.039 x 3 mm, Pitch 0.5 mm; Supplier 1: Digi-Key; Supplier Part Number 1: LTC3603IMSE#TRPBF-ND; RoHS: TRUE
footprint LT-MSE-16-EDP_N (SOP, 16-Leads, Body 4.1x3.1mm, Pitch 0.5mm, Thermal Pad 2.95x1.76mm, IPC Medium Density)
footprint LT-MSE-16-EDP_L (SOP, 16-Leads, Body 4.1x3.1mm, Pitch 0.5mm, Thermal Pad 2.95x1.76mm, IPC High Density)
footprint LT-MSE-16-EDP_M (SOP, 16-Leads, Body 4.1x3.1mm, Pitch 0.5mm, Thermal Pad 2.95x1.76mm, IPC Low Density)
pins: 1 INTVCC (power) "Output of Internal 5V LDO.", 2 SYNC/MODE (in) "Mode Select and External Clock Synchronization Input. Do not leave this pin floating.", 3 PGOOD (oc) "Power Good Output. Open-drain logic output that is pulled to ground when the output voltage is not within +/-10% of regulation point.", 4 RT "Frequency Set Pin.", 5 ITH "Error Amplifier Compensation Point.", 6 VFB (in) "Feedback Pin.", 7 SGND (power) "Signal Ground. Exposed pad is signal ground and must be soldered to the PCB for rated thermal performance.", 8 RUN (in) "Run Control Input. This pin may be tied to PVIN to enable the chip. Do not leave this pin floating.", 9 TRACK/SS (in) "Tracking Input for the Controller or Optional External Soft-Start Input. This pin allows the start-up of VOUT to “track?the external voltage at this pin using an external resistor divider. An external soft-start can(See Datasheet)", 10 PGND (power) "Power Ground.", 11 PGND (power) "Power Ground.", 12 SW (power) "Switch Node Connection to the Inductor.", 13 SW (power) "Switch Node Connection to the Inductor.", 14 BOOST "Bootstrapped Supply to the Top Side Floating Gate Driver.", 15 PVIN (power) "Power Input Supply. Decouple this pin with a capacitor to PGND", 16 PVIN (power) "Power Input Supply. Decouple this pin with a capacitor to PGND", 17 EP (power) "Signal Ground. Exposed pad is signal ground and must be soldered to the PCB for rated thermal performance."

## LTC3603IUF
designator U?
2.5 A, Monolithic Synchronous Step-Down Regulator, 20-pin QFN (UF-20), -40 to 125 degC; Manufacturer: Linear Technology; PartNumber: LTC3603IUF; Number of Outputs: 1; PackageReference: UF20; PackageDescription: 20-Pin Plastic QFN, Body 4 x 4 mm, Pitch 0.5 mm; RoHS: FALSE; Code_JEDEC: MO-220
footprint LT-UF-20_N (QFN, 20-Leads, Body 4.1x4.1mm, Pitch 0.5mm, Thermal Pad 2.45x2.45mm, IPC Medium Density)
footprint LT-UF-20_L (QFN, 20-Leads, Body 4.1x4.1mm, Pitch 0.5mm, Thermal Pad 2.45x2.45mm, IPC High Density)
footprint LT-UF-20_M (QFN, 20-Leads, Body 4.1x4.1mm, Pitch 0.5mm, Thermal Pad 2.45x2.45mm, IPC Low Density)
pins: 1 PVIN (power) "Power Input Supply. Decouple this pin with a capacitor to PGND", 2 PVIN (power) "Power Input Supply. Decouple this pin with a capacitor to PGND", 3 INTVCC (power) "Output of Internal 5V LDO.", 4 SYNC/MODE (in) "Mode Select and External Clock Synchronization Input. Do not leave this pin floating.", 5 PGOOD (oc) "Power Good Output. Open-drain logic output that is pulled to ground when the output voltage is not within +/-10% of regulation point.", 6 RT "Frequency Set Pin.", 7 ITH "Error Amplifier Compensation Point.", 8 VFB (in) "Feedback Pin.", 9 SGND (power) "Signal Ground. Exposed pad is signal ground and must be soldered to the PCB for rated thermal performance.", 10 RUN (in) "Run Control Input. This pin may be tied to PVIN to enable the chip. Do not leave this pin floating.", 11 TRACK/SS (in) "Tracking Input for the Controller or Optional External Soft-Start Input. This pin allows the start-up of VOUT to “track?the external voltage at this pin using an external resistor divider. An external soft-start can(See Datasheet)", 12 PGND (power) "Power Ground.", 13 PGND (power) "Power Ground.", 14 PGND (power) "Power Ground.", 15 PGND (power) "Power Ground.", 16 SW (power) "Switch Node Connection to the Inductor.", 17 SW (power) "Switch Node Connection to the Inductor.", 18 SW (power) "Switch Node Connection to the Inductor.", 19 SW (power) "Switch Node Connection to the Inductor.", 20 BOOST "Bootstrapped Supply to the Top Side Floating Gate Driver.", 21 EP (power) "Signal Ground. Exposed pad is signal ground and must be soldered to the PCB for rated thermal performance."

## LTC3603IUF#PBF
designator U?
2.5 A, Monolithic Synchronous Step-Down Regulator, 20-pin QFN (UF-20), -40 to 125 degC, Pb-Free; Manufacturer: Linear Technology; PartNumber: LTC3603IUF#PBF; Number of Outputs: 1; PackageReference: UF20; PackageDescription: 20-Pin Plastic QFN, Body 4 x 4 mm, Pitch 0.5 mm; Supplier 1: Digi-Key; Supplier Part Number 1: LTC3603IUF#PBF-ND; RoHS: TRUE; Code_JEDEC: MO-220
footprint LT-UF-20_N (QFN, 20-Leads, Body 4.1x4.1mm, Pitch 0.5mm, Thermal Pad 2.45x2.45mm, IPC Medium Density)
footprint LT-UF-20_L (QFN, 20-Leads, Body 4.1x4.1mm, Pitch 0.5mm, Thermal Pad 2.45x2.45mm, IPC High Density)
footprint LT-UF-20_M (QFN, 20-Leads, Body 4.1x4.1mm, Pitch 0.5mm, Thermal Pad 2.45x2.45mm, IPC Low Density)
pins: 1 PVIN (power) "Power Input Supply. Decouple this pin with a capacitor to PGND", 2 PVIN (power) "Power Input Supply. Decouple this pin with a capacitor to PGND", 3 INTVCC (power) "Output of Internal 5V LDO.", 4 SYNC/MODE (in) "Mode Select and External Clock Synchronization Input. Do not leave this pin floating.", 5 PGOOD (oc) "Power Good Output. Open-drain logic output that is pulled to ground when the output voltage is not within +/-10% of regulation point.", 6 RT "Frequency Set Pin.", 7 ITH "Error Amplifier Compensation Point.", 8 VFB (in) "Feedback Pin.", 9 SGND (power) "Signal Ground. Exposed pad is signal ground and must be soldered to the PCB for rated thermal performance.", 10 RUN (in) "Run Control Input. This pin may be tied to PVIN to enable the chip. Do not leave this pin floating.", 11 TRACK/SS (in) "Tracking Input for the Controller or Optional External Soft-Start Input. This pin allows the start-up of VOUT to “track?the external voltage at this pin using an external resistor divider. An external soft-start can(See Datasheet)", 12 PGND (power) "Power Ground.", 13 PGND (power) "Power Ground.", 14 PGND (power) "Power Ground.", 15 PGND (power) "Power Ground.", 16 SW (power) "Switch Node Connection to the Inductor.", 17 SW (power) "Switch Node Connection to the Inductor.", 18 SW (power) "Switch Node Connection to the Inductor.", 19 SW (power) "Switch Node Connection to the Inductor.", 20 BOOST "Bootstrapped Supply to the Top Side Floating Gate Driver.", 21 EP (power) "Signal Ground. Exposed pad is signal ground and must be soldered to the PCB for rated thermal performance."

## LTC3603IUF#TRPBF
designator U?
2.5 A, Monolithic Synchronous Step-Down Regulator, 20-pin QFN (UF-20), -40 to 125 degC, Pb-Free, Tape and Reel; Manufacturer: Linear Technology; PartNumber: LTC3603IUF#TRPBF; Number of Outputs: 1; PackageReference: UF20; PackageDescription: 20-Pin Plastic QFN, Body 4 x 4 mm, Pitch 0.5 mm; Supplier 1: Digi-Key; Supplier Part Number 1: LTC3603IUF#TRPBF-ND; RoHS: TRUE; Code_JEDEC: MO-220
footprint LT-UF-20_N (QFN, 20-Leads, Body 4.1x4.1mm, Pitch 0.5mm, Thermal Pad 2.45x2.45mm, IPC Medium Density)
footprint LT-UF-20_L (QFN, 20-Leads, Body 4.1x4.1mm, Pitch 0.5mm, Thermal Pad 2.45x2.45mm, IPC High Density)
footprint LT-UF-20_M (QFN, 20-Leads, Body 4.1x4.1mm, Pitch 0.5mm, Thermal Pad 2.45x2.45mm, IPC Low Density)
pins: 1 PVIN (power) "Power Input Supply. Decouple this pin with a capacitor to PGND", 2 PVIN (power) "Power Input Supply. Decouple this pin with a capacitor to PGND", 3 INTVCC (power) "Output of Internal 5V LDO.", 4 SYNC/MODE (in) "Mode Select and External Clock Synchronization Input. Do not leave this pin floating.", 5 PGOOD (oc) "Power Good Output. Open-drain logic output that is pulled to ground when the output voltage is not within +/-10% of regulation point.", 6 RT "Frequency Set Pin.", 7 ITH "Error Amplifier Compensation Point.", 8 VFB (in) "Feedback Pin.", 9 SGND (power) "Signal Ground. Exposed pad is signal ground and must be soldered to the PCB for rated thermal performance.", 10 RUN (in) "Run Control Input. This pin may be tied to PVIN to enable the chip. Do not leave this pin floating.", 11 TRACK/SS (in) "Tracking Input for the Controller or Optional External Soft-Start Input. This pin allows the start-up of VOUT to “track?the external voltage at this pin using an external resistor divider. An external soft-start can(See Datasheet)", 12 PGND (power) "Power Ground.", 13 PGND (power) "Power Ground.", 14 PGND (power) "Power Ground.", 15 PGND (power) "Power Ground.", 16 SW (power) "Switch Node Connection to the Inductor.", 17 SW (power) "Switch Node Connection to the Inductor.", 18 SW (power) "Switch Node Connection to the Inductor.", 19 SW (power) "Switch Node Connection to the Inductor.", 20 BOOST "Bootstrapped Supply to the Top Side Floating Gate Driver.", 21 EP (power) "Signal Ground. Exposed pad is signal ground and must be soldered to the PCB for rated thermal performance."